# Altium schematic symbol library SSW-106-01-X-S.SchLib: 1 symbol
Pins are listed as number, name and electrical type; pins without a type are passive.

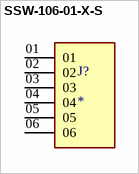
[diagram p0: symbol SSW-106-01-X-S]

## SSW-106-01-X-S
designator J?
MF: Samtec Inc.; MP: SSW-106-01-X-S; Package: None; Price: None; Value: *; Availability: Unavailable
footprint SAMTEC_SSW-106-01-X-S
pins: 01, 02, 03, 04, 05, 06